# Altium footprint library LED_SMD.PcbLib: 82 footprints (part 2 of 6)
Each footprint in its own frame and in the unit in brackets; x right, y up, seen from the top. Pads: shape width x height; smd on the part's side, far side on the other; paste and mask are expansions set on the pad; w line width, h text height; cw(c..) or ccw(c..) is an arc to the next point about the centre after c.
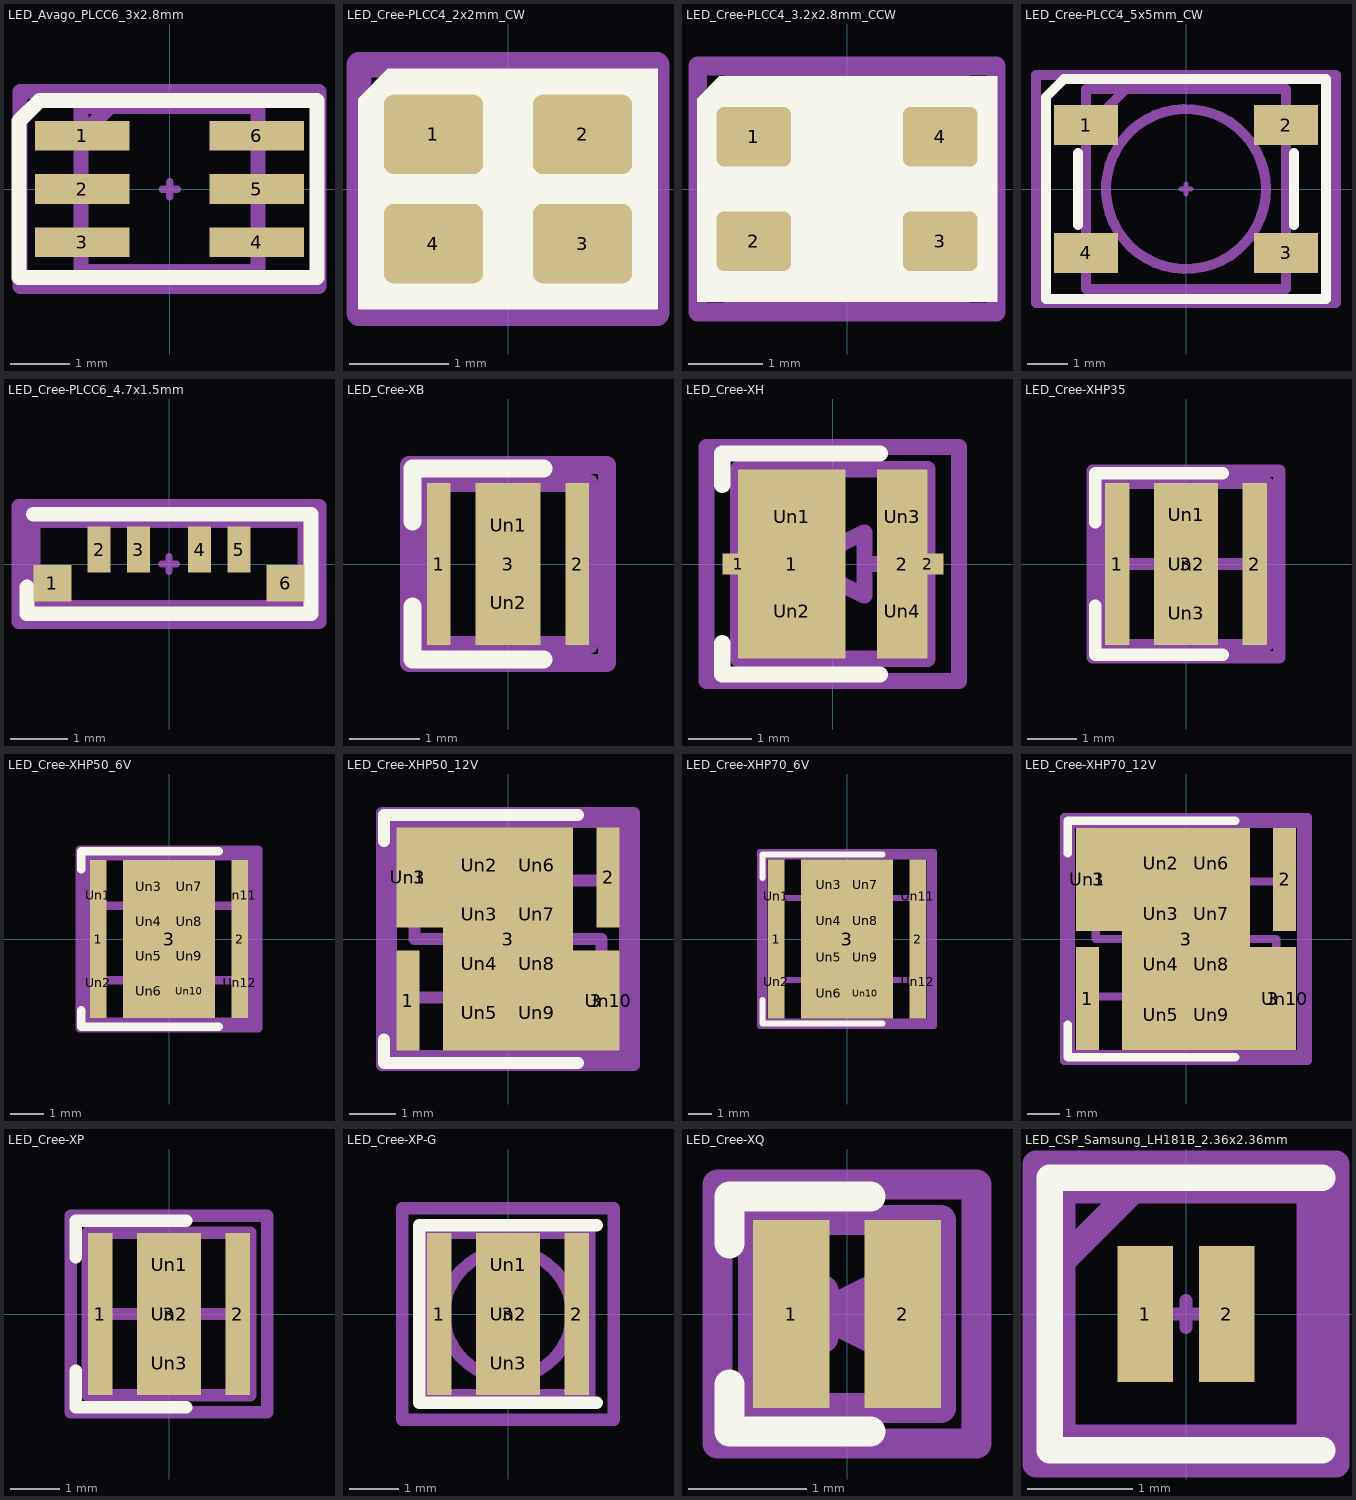
[diagram p1: the footprints below, top view; thin cyan lines are the x and y axes]

## LED_Avago_PLCC6_3x2.8mm [mm] "LED_Avago_PLCC6_3x2.8mm"
pads (6):
  rect 1.6x0.5 smd: 1(-1.475,0.9) 2(-1.475,0) 3(-1.475,-0.9) 4(1.475,-0.9) 5(1.475,0) 6(1.475,0.9)
F.SilkS:
  lines w0.254: -2.55,-1.5 2.5,-1.5 2.5,1.5 -2.2,1.5 -2.55,1.15 -2.55,-1.5
Top Component Center:
  lines w0.127: -0.127,0 0.127,0 ; 0,-0.127 0,0.127
Top Assembly:
  lines w0.254: -1.5,0.9 -1,1.4 ; -1.5,-1.4 1.5,-1.4 1.5,1.4 -1.5,1.4 -1.5,-1.4
Top Courtyard:
  lines w0.254: -2.53,-1.65 2.53,-1.65 2.53,1.65 -2.53,1.65 -2.53,-1.65
Top Designator:
  text ".Designator" at -2.253,-0.226 h1

## LED_Cree-PLCC4_2x2mm_CW [mm] "LED_Cree-PLCC4_2x2mm_CW"
pads (4):
  rrect25% 1x0.8 smd: 1(-0.75,0.55) 2(0.75,0.55) 3(0.75,-0.55) 4(-0.75,-0.55)
F.SilkS:
  region: 1.51,-1.21 -1.51,-1.21 -1.51,0.91 -1.21,1.21 1.51,1.21
Top Component Center:
  lines w0.127: -0.127,0 0.127,0 ; 0,-0.127 0,0.127
Top Assembly:
  circle w0.254: c0,0 r0.8
  lines w0.254: -1,0 0,1 ; -1,-1 1,-1 1,1 -1,1 -1,-1
Top Courtyard:
  lines w0.254: -1.5,-1.25 1.5,-1.25 1.5,1.25 -1.5,1.25 -1.5,-1.25
Top Designator:
  text ".Designator" at -1.69,-0.17 h0.75

## LED_Cree-PLCC4_3.2x2.8mm_CCW [mm] "LED_Cree-PLCC4_3.2x2.8mm_CCW"
pads (4):
  rrect25% 1x0.8 smd: 1(-1.25,0.7) 2(-1.25,-0.7) 3(1.25,-0.7) 4(1.25,0.7)
F.SilkS:
  region: 2.01,-1.51 -2.01,-1.51 -2.01,1.21 -1.71,1.51 2.01,1.51
Top Component Center:
  lines w0.127: -0.127,0 0.127,0 ; 0,-0.127 0,0.127
Top Assembly:
  circle w0.254: c0,0 r1.12
  lines w0.254: -1.6,0.4 -0.6,1.4 ; -1.6,-1.4 -1.6,1.4 1.6,1.4 1.6,-1.4 -1.6,-1.4
Top Courtyard:
  lines w0.254: -2,-1.65 -2,1.65 2,1.65 2,-1.65 -2,-1.65
Top Designator:
  text ".Designator" at -2.253,-0.226 h1

## LED_Cree-PLCC4_5x5mm_CW [mm] "LED_Cree-PLCC4_5x5mm_CW"
pads (4):
  rect 1.6x1 smd: 1(-2.5,1.6) 2(2.5,1.6) 3(2.5,-1.6) 4(-2.5,-1.6)
F.SilkS:
  lines w0.254: -2.7,-0.9 -2.7,0.9 ; 2.7,-0.9 2.7,0.9 ; -3.5,-2.75 -3.5,2.3 -3.05,2.75 3.5,2.75 3.5,-2.75 -3.5,-2.75
Top Component Center:
  lines w0.127: -0.127,0 0.127,0 ; 0,-0.127 0,0.127
Top Assembly:
  circle w0.254: c0,0 r2
  lines w0.254: -2.5,1.5 -1.5,2.5 ; -2.5,-2.5 -2.5,2.5 2.5,2.5 2.5,-2.5 -2.5,-2.5
Top Courtyard:
  lines w0.254: -3.75,-2.85 -3.75,2.85 3.75,2.85 3.75,-2.85 -3.75,-2.85
Top Designator:
  text ".Designator" at -3.38,-0.339 h1.5

## LED_Cree-PLCC6_4.7x1.5mm [mm] "LED_Cree-PLCC6_4.7x1.5mm"
pads (6):
  rect 0.66x0.63 smd: 1(-2.02,-0.335) 6(2.02,-0.335)
  rect 0.4x0.8 smd: 2(-1.21,0.25) 3(-0.53,0.25) 4(0.53,0.25) 5(1.21,0.25)
F.SilkS:
  lines w0.254: -2.46,-0.4 -2.46,-0.86 2.46,-0.86 2.46,0.86 -2.35,0.86
Top Component Center:
  lines w0.127: -0.127,0 0.127,0 ; 0,-0.127 0,0.127
Top Assembly:
  lines w0.254: -2.35,-0.75 -2.35,0.75 2.35,0.75 2.35,-0.75 -2.35,-0.75
Top Courtyard:
  lines w0.254: -2.6,-1 -2.6,1 2.6,1 2.6,-1 -2.6,-1
Top Designator:
  text ".Designator" at -3.38,-0.339 h1.5

## LED_Cree-XB [mm] "LED_Cree-XB"
pads (5):
  rect 0.33x2.29 smd: 1(-0.98,0) 2(0.98,0)
  rect 0.92x2.29 smd: 3(0,0)
  rect 0.85x0.85 on Top Paste: Un1(0,0.55) Un2(0,-0.55)
F.SilkS:
  lines w0.254: -1.35,-0.6 -1.35,-1.35 0.5,-1.35 ; -1.35,0.6 -1.35,1.35 0.5,1.35
Top Component Center:
  lines w0.127: -0.127,0 0.127,0 ; 0,-0.127 0,0.127
Top Assembly:
  lines w0.254: -1.15,-1.15 1.15,-1.15 1.15,1.15 -1.15,1.15 -1.15,-1.15
Top Courtyard:
  lines w0.254: -1.4,-1.4 1.4,-1.4 1.4,1.4 -1.4,1.4 -1.4,-1.4
Top Designator:
  text ".Designator" at -1.69,-0.17 h0.75

## LED_Cree-XH [mm] "LED_Cree-XH"
pads (8):
  rect 0.5x0.33 smd: 1(-1.5,0) 2(1.5,0)
  rect 1.7x3 smd: 1(-0.65,0)
  rect 0.8x3 smd: 2(1.1,0)
  rect 1.35x1.2 on Top Paste: Un1(-0.65,0.75) Un2(-0.65,-0.75)
  rect 0.7x1.2 on Top Paste: Un3(1.1,0.75) Un4(1.1,-0.75)
F.SilkS:
  lines w0.254: -1.75,-1.25 -1.75,-1.75 0.75,-1.75 ; -1.75,1.25 -1.75,1.75 0.75,1.75
Top Component Center:
  lines w0.127: -0.127,0 0.127,0 ; 0,-0.127 0,0.127
Top Assembly:
  lines w0.254: -1,0 -0.5,0 ; -0.5,-0.5 -0.5,0.5 ; 0.5,0 1,0 ; -0.5,0 0.5,0.5 0.5,-0.5 -0.5,0 ; -1.5,-1.5 -1.5,1.5 1.5,1.5 1.5,-1.5 -1.5,-1.5
Top Courtyard:
  lines w0.254: -2,-1.85 -2,1.85 2,1.85 2,-1.85 -2,-1.85
Top Designator:
  text ".Designator" at -2.253,-0.226 h1

## LED_Cree-XHP35 [mm] "LED_Cree-XHP35"
pads (6):
  rect 0.5x3.3 smd: 1(-1.4,0) 2(1.4,0)
  rect 1.3x3.3 smd: 3(0,0)
  rect 1.01x0.75 on Top Paste: Un1(0,1) Un2(0,0) Un3(0,-1)
F.SilkS:
  lines w0.254: -1.85,-0.85 -1.85,-1.85 0.75,-1.85 ; -1.85,0.85 -1.85,1.85 0.75,1.85
Top Component Center:
  lines w0.127: -0.127,0 0.127,0 ; 0,-0.127 0,0.127
Top Assembly:
  lines w0.254: -1.25,0 -0.5,0 ; -0.5,-0.5 -0.5,0.5 ; 0.5,0 1.25,0 ; -0.5,0 0.5,-0.5 0.5,0.5 -0.5,0 ; -1.65,-1.65 1.65,-1.65 1.65,1.65 -1.65,1.65 -1.65,-1.65
Top Courtyard:
  lines w0.254: -1.9,-1.9 1.9,-1.9 1.9,1.9 -1.9,1.9 -1.9,-1.9
Top Designator:
  text ".Designator" at -2.253,-0.226 h1

## LED_Cree-XHP50_6V [mm] "LED_Cree-XHP50_6V"
pads (15):
  rect 0.5x4.78 smd: 1(-2.14,0) 2(2.14,0)
  rect 2.78x4.78 smd: 3(0,0)
  rect 0.5x2.14 on Top Paste: Un1(-2.14,1.32) Un2(-2.14,-1.32) Un11(2.14,1.32) Un12(2.14,-1.32)
  rect 0.97x0.8 on Top Paste: Un3(-0.61,1.575) Un4(-0.61,0.525) Un5(-0.61,-0.525) Un6(-0.61,-1.575) Un7(0.61,1.575) Un8(0.61,0.525) Un9(0.61,-0.525) Un10(0.61,-1.575)
F.SilkS:
  lines w0.254: -2.65,-2.15 -2.65,-2.65 1.5,-2.65 ; -2.65,2.1 -2.65,2.65 1.5,2.65
Top Component Center:
  lines w0.127: -0.127,0 0.127,0 ; 0,-0.127 0,0.127
Top Assembly:
  lines w0.254: -2,-1.25 -1.25,-1.25 ; -2,1 -1.25,1 ; -1.25,-1.75 -1.25,-1.25 ; -1.25,-0.75 -1.25,-1.25 ; -1.25,0.5 -1.25,1 ; -1.25,1.5 -1.25,1 ; -0.5,-1.25 0.5,-1.25 ; -0.5,1 0.5,1 ; 0.5,-1.75 0.5,-0.75 ; 0.5,0.5 0.5,1.5 ; 2,-1.25 1.5,-1.25 1.25,-1.25 ; 2,1 1.5,1 1.25,1 ; -1.25,-1.25 -0.5,-0.75 -0.5,-1.75 -1.25,-1.25 ; -1.25,1 -0.5,1.5 -0.5,0.5 -1.25,1 ; 0.5,-1.25 1.25,-1.75 1.25,-1.25 ; 0.5,-1.25 1.25,-0.75 1.25,-1.25 ; 0.5,1 1.25,0.5 1.25,1 ; 0.5,1 1.25,1.5 1.25,1 ; -2.5,-2.5 -2.5,2.5 2.5,2.5 2.5,-2.5 -2.5,-2.5
Top Courtyard:
  lines w0.254: -2.7,-2.7 -2.7,2.7 2.7,2.7 2.7,-2.7 -2.7,-2.7
Top Designator:
  text ".Designator" at -3.38,-0.339 h1.5

## LED_Cree-XHP50_12V [mm] "LED_Cree-XHP50_12V"
pads (15):
  rect 0.5x2.14 smd: 1(-2.14,-1.32) 2(2.14,1.32)
  rect 1x2.14 smd: 3(-1.89,1.32) 3(1.89,-1.32)
  rect 2.78x4.78 smd: 3(0,0)
  rect 0.5x2.14 on Top Paste: Un1(-2.14,1.32) Un10(2.14,-1.32)
  rect 0.97x0.8 on Top Paste: Un2(-0.61,1.575) Un3(-0.61,0.525) Un4(-0.61,-0.525) Un5(-0.61,-1.575) Un6(0.61,1.575) Un7(0.61,0.525) Un8(0.61,-0.525) Un9(0.61,-1.575)
F.SilkS:
  lines w0.254: -2.65,-2.15 -2.65,-2.65 1.5,-2.65 ; -2.65,2.1 -2.65,2.65 1.5,2.65
Top Component Center:
  lines w0.127: -0.127,0 0.127,0 ; 0,-0.127 0,0.127
Top Assembly:
  lines w0.254: -2,-1.25 -1.25,-1.25 ; -1.25,-1.75 -1.25,-1.25 ; -1.25,-0.75 -1.25,-1.25 ; -1.25,0.75 -1.25,1.25 ; -1.25,1.75 -1.25,1.25 ; -0.5,-1.25 0.5,-1.25 ; -0.5,1.25 0.5,1.25 ; 0.5,-1.75 0.5,-0.75 ; 0.5,0.75 0.5,1.75 ; 1.25,-1.25 2,-1.25 2,0 -2,0 -2,1.25 -1.25,1.25 ; 2,1.25 1.25,1.25 ; -1.25,-1.25 -0.5,-0.75 -0.5,-1.75 -1.25,-1.25 ; -1.25,1.25 -0.5,1.75 -0.5,0.75 -1.25,1.25 ; 0.5,-1.25 1.25,-1.75 1.25,-0.75 0.5,-1.25 ; 0.5,1.25 1.25,0.75 1.25,1.25 ; 0.5,1.25 1.25,1.75 1.25,1.25 ; -2.5,-2.5 -2.5,2.5 2.5,2.5 2.5,-2.5 -2.5,-2.5
Top Courtyard:
  lines w0.254: -2.7,-2.7 -2.7,2.7 2.7,2.7 2.7,-2.7 -2.7,-2.7
Top Designator:
  text ".Designator" at -3.38,-0.339 h1.5

## LED_Cree-XHP70_6V [mm] "LED_Cree-XHP70_6V"
pads (15):
  rect 0.7x6.76 smd: 1(-3,0) 2(3,0)
  rect 3.9x6.76 smd: 3(0,0)
  rect 0.7x3.13 on Top Paste: Un1(-3,1.815) Un2(-3,-1.815) Un11(3,1.815) Un12(3,-1.815)
  rect 1.29x1.29 on Top Paste: Un3(-0.77,2.31) Un4(-0.77,0.77) Un5(-0.77,-0.77) Un6(-0.77,-2.31) Un7(0.77,2.31) Un8(0.77,0.77) Un9(0.77,-0.77) Un10(0.77,-2.31)
F.SilkS:
  lines w0.254: -3.6,-2.6 -3.6,-3.6 1.5,-3.6 ; -3.6,2.6 -3.6,3.6 1.5,3.6
Top Component Center:
  lines w0.127: -0.127,0 0.127,0 ; 0,-0.127 0,0.127
Top Assembly:
  lines w0.254: -2.75,-1.75 -1.75,-1.75 ; -2.75,1.75 -1.75,1.75 ; -1.75,-2.5 -1.75,-1.75 ; -1.75,-1 -1.75,-1.75 ; -1.75,1 -1.75,1.75 ; -1.75,2.5 -1.75,1.75 ; -0.5,-1.75 0.5,-1.75 ; -0.5,1.75 0.5,1.75 ; 0.5,-2.5 0.5,-1 ; 0.5,1 0.5,2.5 ; 2.75,-1.75 1.75,-1.75 ; 2.75,1.75 1.75,1.75 ; -1.75,-1.75 -0.5,-2.5 -0.5,-1 -1.75,-1.75 ; -1.75,1.75 -0.5,1 -0.5,2.5 -1.75,1.75 ; 0.5,-1.75 1.75,-1 1.75,-1.75 ; 0.5,-1.75 1.75,-2.5 1.75,-1.75 ; 0.5,1.75 1.75,2.5 1.75,1.75 ; 0.5,1.75 1.75,1 1.75,1.75 ; -3.5,-3.5 -3.5,3.5 3.5,3.5 3.5,-3.5 -3.5,-3.5
Top Courtyard:
  lines w0.254: -3.7,-3.7 -3.7,3.7 3.7,3.7 3.7,-3.7 -3.7,-3.7
Top Designator:
  text ".Designator" at -3.432,-0.345 h1.52

## LED_Cree-XHP70_12V [mm] "LED_Cree-XHP70_12V"
pads (15):
  rect 0.7x3.13 smd: 1(-3,-1.815) 2(3,1.815)
  rect 1.4x3.13 smd: 3(-2.65,1.815) 3(2.65,-1.815)
  rect 3.9x6.76 smd: 3(0,0)
  rect 0.7x3.13 on Top Paste: Un1(-3,1.815) Un10(3,-1.815)
  rect 1.29x1.29 on Top Paste: Un2(-0.77,2.31) Un3(-0.77,0.77) Un4(-0.77,-0.77) Un5(-0.77,-2.31) Un6(0.77,2.31) Un7(0.77,0.77) Un8(0.77,-0.77) Un9(0.77,-2.31)
F.SilkS:
  lines w0.254: -3.6,-2.6 -3.6,-3.6 1.5,-3.6 ; -3.6,2.6 -3.6,3.6 1.5,3.6
Top Component Center:
  lines w0.127: -0.127,0 0.127,0 ; 0,-0.127 0,0.127
Top Assembly:
  lines w0.254: -2.75,-1.75 -1.75,-1.75 ; -1.75,-2.5 -1.75,-1.75 ; -1.75,-1 -1.75,-1.75 ; -1.75,1 -1.75,1.75 ; -1.75,2.5 -1.75,1.75 ; -0.5,-1.75 0.5,-1.75 ; -0.5,1.75 0.5,1.75 ; 0.5,-2.5 0.5,-1 ; 0.5,1 0.5,2.5 ; 2.75,1.75 1.75,1.75 ; -1.75,-1.75 -0.5,-1 -0.5,-2.5 -1.75,-1.75 ; -1.75,1.75 -0.5,2.5 -0.5,1 -1.75,1.75 ; -1.75,1.75 -2.75,1.75 -2.75,0 2.75,0 2.75,-1.75 1.75,-1.75 ; 0.5,-1.75 1.75,-2.5 1.75,-1.75 ; 0.5,-1.75 1.75,-1 1.75,-1.75 ; 0.5,1.75 1.75,1 1.75,1.75 ; 0.5,1.75 1.75,2.5 1.75,1.75 ; -3.5,-3.5 3.5,-3.5 3.5,3.5 -3.5,3.5 -3.5,-3.5
Top Courtyard:
  lines w0.254: -3.7,-3.7 3.7,-3.7 3.7,3.7 -3.7,3.7 -3.7,-3.7
Top Designator:
  text ".Designator" at -3.432,-0.345 h1.52

## LED_Cree-XP [mm] "LED_Cree-XP"
pads (6):
  rect 0.5x3.3 smd: 1(-1.4,0) 2(1.4,0)
  rect 1.3x3.3 smd: 3(0,0)
  rect 1.01x0.75 on Top Paste: Un1(0,1) Un2(0,0) Un3(0,-1)
F.SilkS:
  lines w0.254: -1.9,-1.15 -1.9,-1.9 0.35,-1.9 ; -1.9,1.15 -1.9,1.9 0.35,1.9
Top Component Center:
  lines w0.127: -0.127,0 0.127,0 ; 0,-0.127 0,0.127
Top Assembly:
  lines w0.254: -1.25,0 -0.5,0 ; -0.5,-0.5 -0.5,0.5 ; 0.5,0 1.25,0 ; -0.5,0 0.5,0.5 0.5,-0.5 -0.5,0 ; -1.65,-1.65 -1.65,1.65 1.65,1.65 1.65,-1.65 -1.65,-1.65
Top Courtyard:
  lines w0.254: -2,-2 -2,2 2,2 2,-2 -2,-2
Top Designator:
  text ".Designator" at -2.253,-0.226 h1

## LED_Cree-XP-G [mm] "LED_Cree-XP-G"
pads (6):
  rect 0.5x3.3 smd: 1(-1.4,0) 2(1.4,0)
  rect 1.3x3.3 smd: 3(0,0)
  rect 1.01x0.75 on Top Paste: Un1(0,1) Un2(0,0) Un3(0,-1)
F.SilkS:
  lines w0.254: 1.8,-1.8 -1.8,-1.8 -1.8,1.8 1.8,1.8
Top Component Center:
  lines w0.127: -0.127,0 0.127,0 ; 0,-0.127 0,0.127
Top Assembly:
  circle w0.254: c0,0 r1.3
  lines w0.254: -1.65,-1.65 -1.65,1.65 1.65,1.65 1.65,-1.65 -1.65,-1.65
Top Courtyard:
  lines w0.254: -2.15,-2.15 -2.15,2.15 2.15,2.15 2.15,-2.15 -2.15,-2.15
Top Designator:
  text ".Designator" at -2.253,-0.226 h1

## LED_Cree-XQ [mm] "LED_Cree-XQ"
pads (2):
  rect 0.65x1.6 smd: 1(-0.475,0) 2(0.475,0)
F.SilkS:
  lines w0.254: -1,-0.6 -1,-1 0.2,-1 ; -1,0.6 -1,1 0.2,1
Top Component Center:
  lines w0.127: -0.127,0 0.127,0 ; 0,-0.127 0,0.127
Top Assembly:
  lines w0.254: -0.6,0 -0.2,0 ; -0.2,-0.2 -0.2,0.2 ; 0.2,0 0.6,0 ; -0.2,0 0.2,0.2 0.2,-0.2 -0.2,0 ; -0.8,-0.8 -0.8,0.8 0.8,0.8 0.8,-0.8 -0.8,-0.8
Top Courtyard:
  lines w0.254: -1.1,-1.1 -1.1,1.1 1.1,1.1 1.1,-1.1 -1.1,-1.1
Top Designator:
  text ".Designator" at -1.69,-0.17 h0.75

## LED_CSP_Samsung_LH181B_2.36x2.36mm [mm] "LED_CSP_Samsung_LH181B_2.36x2.36mm"
pads (2):
  rect 0.53x1.3 smd: 1(-0.39,0) 2(0.39,0)
F.SilkS:
  lines w0.254: 1.3,-1.3 -1.3,-1.3 -1.3,1.3 1.3,1.3
Top Component Center:
  lines w0.127: -0.127,0 0.127,0 ; 0,-0.127 0,0.127
Top Assembly:
  lines w0.254: -1.18,0.5 -0.5,1.18 ; -1.18,-1.18 1.18,-1.18 1.18,1.18 -1.18,1.18 -1.18,-1.18
Top Courtyard:
  lines w0.254: -1.43,-1.43 1.43,-1.43 1.43,1.43 -1.43,1.43 -1.43,-1.43
Top Designator:
  text ".Designator" at -2.253,-0.226 h1